# EAGLE library part JST-XH-2.5MM-SIDE-9 (library MyLibrary)
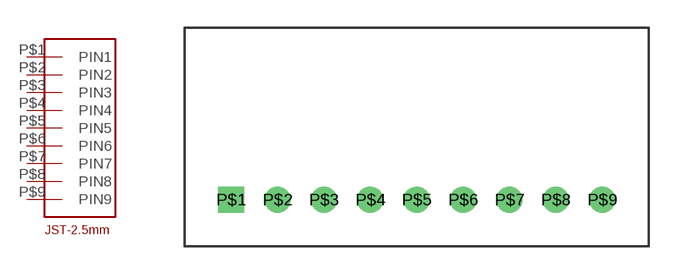
[diagram p0: symbol with the pads of JST-XH-2.5MM-SIDE-9; footprint JST-XH-2.5MM-SIDE-9]

Designator prefix -

## JST-XH-2.5MM-SIDE-9  [JST-XH-2.5MM-SIDE-9]
P$1  PIN1
P$2  PIN2
P$3  PIN3
P$4  PIN4
P$5  PIN5
P$6  PIN6
P$7  PIN7
P$8  PIN8
P$9  PIN9

## Footprint JST-XH-2.5MM-SIDE-9 (pad centres in mm)
drill 0.9 square: P$1 0,0
drill 0.9: P$2 2.5,0; P$3 5,0; P$4 7.5,0; P$5 10,0; P$6 12.5,0; P$7 15,0; P$8 17.5,0; P$9 20,0